# Altium schematic symbol library HW_ADHERENT_NFC_R1_L3.SchLib: 1628 symbols (part 12 of 31)
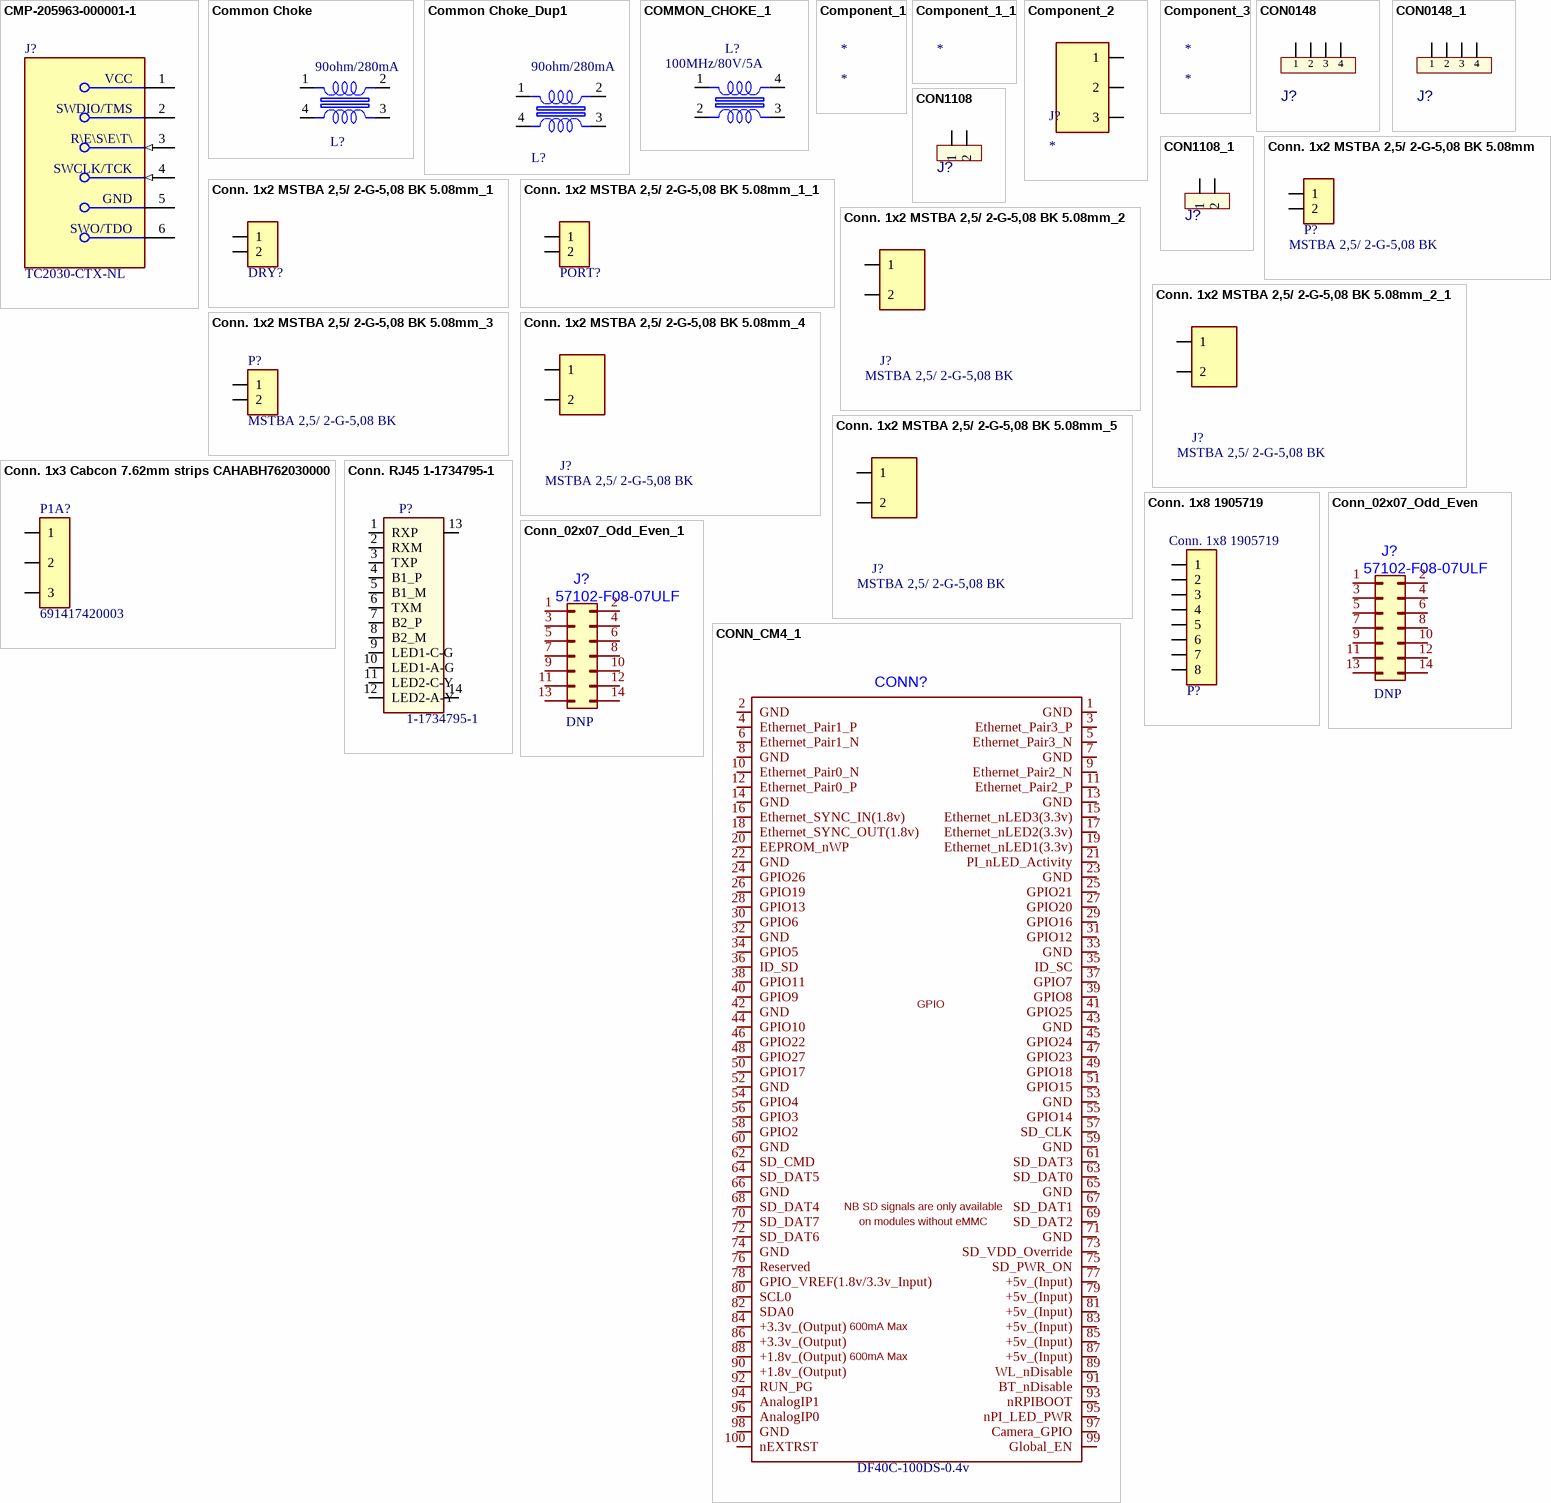
[diagram p61: symbols CMP-205963-000001-1 to CONN_CM4_1]

## Conn_02x07_Odd_Even_1
designator J?, comment 57102-F08-07ULF
CONN HEADER VERT 14POS 2MM; Manufacturer: Amphenol ICC (FCI); Value: 57102-F08-07ULF; Manufacturer Part Number: 57102-F08-07ULF; DNP: DNP; Supplier Part Number: 609-5091-ND
footprint CONN_2MM_57102-F08-07ULF (Footprint not found)
pins: 1 Pin_1, 2 Pin_2, 3 Pin_3, 4 Pin_4, 5 Pin_5, 6 Pin_6, 7 Pin_7, 8 Pin_8, 9 Pin_9, 10 Pin_10, 11 Pin_11, 12 Pin_12, 13 Pin_13, 14 Pin_14

## CONN_CM4_1
designator CONN?, comment DF40C-100DS-0.4v
CONN RCPT 100POS SMD GOLD; Manufacturer: Hirose Electric Co Ltd; Footprint: CM4IO:Raspberry-Pi-4-Compute-Module; Manufacturer Part Number: DF40C-100DS-0.4v; Value: DF40C-100DS-0.4v
footprint CONN_CM4_1 (DF40C-100DS-0.4V(51))
pins: 1 GND, 2 GND, 3 Ethernet_Pair3_P, 4 Ethernet_Pair1_P, 5 Ethernet_Pair3_N, 6 Ethernet_Pair1_N, 7 GND, 8 GND, 9 Ethernet_Pair2_N, 10 Ethernet_Pair0_N, 11 Ethernet_Pair2_P, 12 Ethernet_Pair0_P, 13 GND, 14 GND, 15 Ethernet_nLED3(3.3v), 16 Ethernet_SYNC_IN(1.8v), 17 Ethernet_nLED2(3.3v), 18 Ethernet_SYNC_OUT(1.8v), 19 Ethernet_nLED1(3.3v), 20 EEPROM_nWP, 21 PI_nLED_Activity, 22 GND, 23 GND, 24 GPIO26, 25 GPIO21, 26 GPIO19, 27 GPIO20, 28 GPIO13, 29 GPIO16, 30 GPIO6, 31 GPIO12, 32 GND, 33 GND, 34 GPIO5, 35 ID_SC, 36 ID_SD, 37 GPIO7, 38 GPIO11, 39 GPIO8, 40 GPIO9, 41 GPIO25, 42 GND, 43 GND, 44 GPIO10, 45 GPIO24, 46 GPIO22, 47 GPIO23, 48 GPIO27, 49 GPIO18, 50 GPIO17, 51 GPIO15, 52 GND, 53 GND, 54 GPIO4, 55 GPIO14, 56 GPIO3, 57 SD_CLK, 58 GPIO2, 59 GND, 60 GND, 61 SD_DAT3, 62 SD_CMD, 63 SD_DAT0, 64 SD_DAT5, 65 GND, 66 GND, 67 SD_DAT1, 68 SD_DAT4, 69 SD_DAT2, 70 SD_DAT7, 71 GND, 72 SD_DAT6, 73 SD_VDD_Override, 74 GND, 75 SD_PWR_ON, 76 Reserved, 77 +5v_(Input), 78 GPIO_VREF(1.8v/3.3v_Input), 79 +5v_(Input), 80 SCL0, 81 +5v_(Input), 82 SDA0, 83 +5v_(Input), 84 +3.3v_(Output), 85 +5v_(Input), 86 +3.3v_(Output), 87 +5v_(Input), 88 +1.8v_(Output), 89 WL_nDisable, 90 +1.8v_(Output), 91 BT_nDisable, 92 RUN_PG, 93 nRPIBOOT, 94 AnalogIP1, 95 nPI_LED_PWR, 96 AnalogIP0, 97 Camera_GPIO, 98 GND, 99 Global_EN, 100 nEXTRST
text: GPIO; NB SD signals are only available; on modules without eMMC; 600mA Max

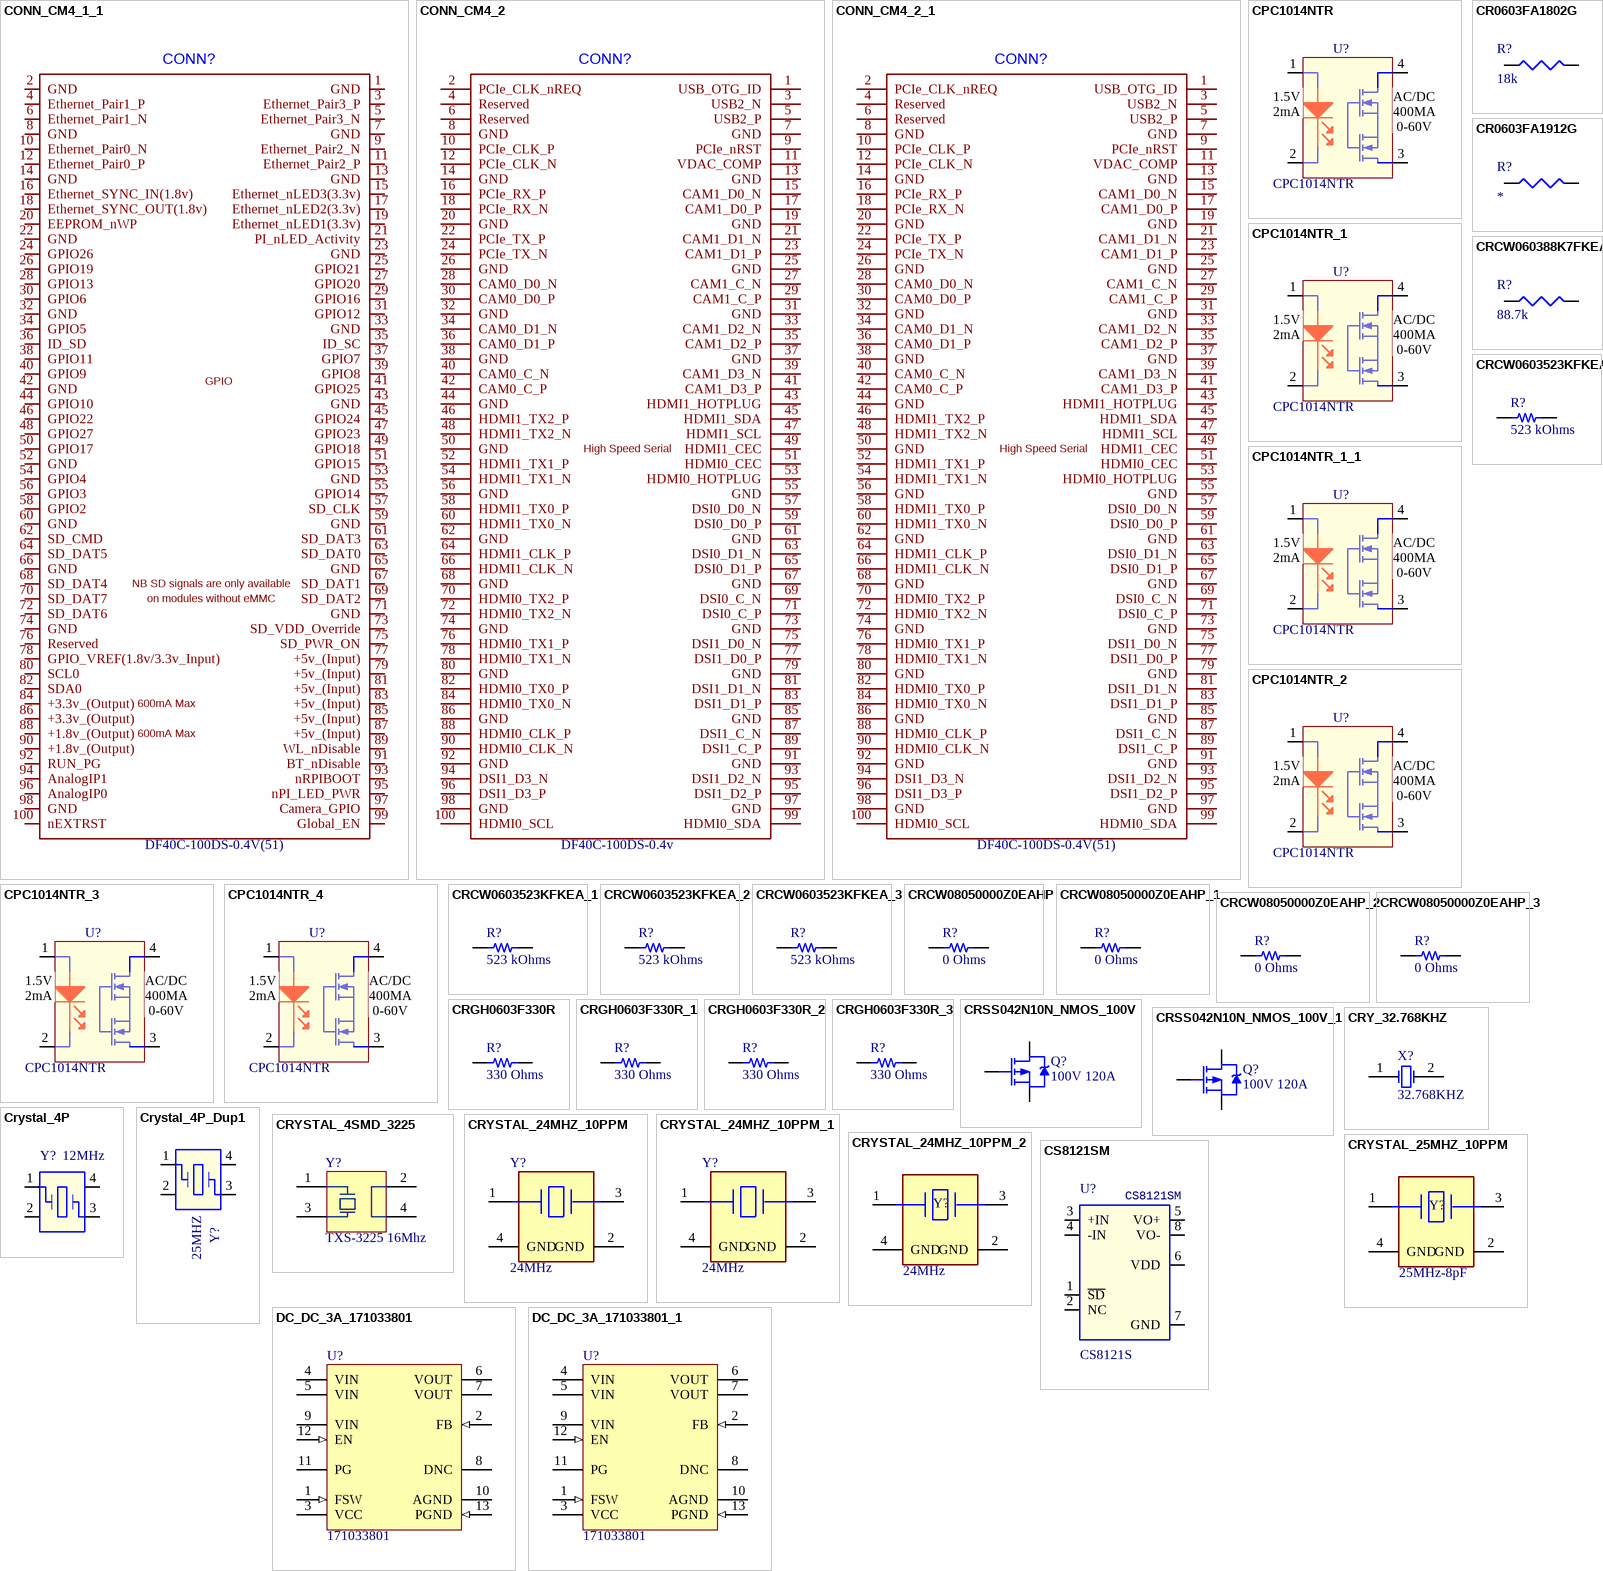
[diagram p18: symbols CONN_CM4_1_1 to DC_DC_3A_171033801_1]

## CONN_CM4_1_1
designator CONN?, comment DF40C-100DS-0.4V(51)
CONN RCPT 100POS SMD GOLD; Manufacturer: Hirose Electric Co Ltd; Footprint: CM4IO:Raspberry-Pi-4-Compute-Module; Manufacturer Part Number: DF40C-100DS-0.4V(51); Value: DF40C-100DS-0.4V(51)
footprint CONN_CM4_1 (DF40C-100DS-0.4V(51))
pins: 1 GND, 2 GND, 3 Ethernet_Pair3_P, 4 Ethernet_Pair1_P, 5 Ethernet_Pair3_N, 6 Ethernet_Pair1_N, 7 GND, 8 GND, 9 Ethernet_Pair2_N, 10 Ethernet_Pair0_N, 11 Ethernet_Pair2_P, 12 Ethernet_Pair0_P, 13 GND, 14 GND, 15 Ethernet_nLED3(3.3v), 16 Ethernet_SYNC_IN(1.8v), 17 Ethernet_nLED2(3.3v), 18 Ethernet_SYNC_OUT(1.8v), 19 Ethernet_nLED1(3.3v), 20 EEPROM_nWP, 21 PI_nLED_Activity, 22 GND, 23 GND, 24 GPIO26, 25 GPIO21, 26 GPIO19, 27 GPIO20, 28 GPIO13, 29 GPIO16, 30 GPIO6, 31 GPIO12, 32 GND, 33 GND, 34 GPIO5, 35 ID_SC, 36 ID_SD, 37 GPIO7, 38 GPIO11, 39 GPIO8, 40 GPIO9, 41 GPIO25, 42 GND, 43 GND, 44 GPIO10, 45 GPIO24, 46 GPIO22, 47 GPIO23, 48 GPIO27, 49 GPIO18, 50 GPIO17, 51 GPIO15, 52 GND, 53 GND, 54 GPIO4, 55 GPIO14, 56 GPIO3, 57 SD_CLK, 58 GPIO2, 59 GND, 60 GND, 61 SD_DAT3, 62 SD_CMD, 63 SD_DAT0, 64 SD_DAT5, 65 GND, 66 GND, 67 SD_DAT1, 68 SD_DAT4, 69 SD_DAT2, 70 SD_DAT7, 71 GND, 72 SD_DAT6, 73 SD_VDD_Override, 74 GND, 75 SD_PWR_ON, 76 Reserved, 77 +5v_(Input), 78 GPIO_VREF(1.8v/3.3v_Input), 79 +5v_(Input), 80 SCL0, 81 +5v_(Input), 82 SDA0, 83 +5v_(Input), 84 +3.3v_(Output), 85 +5v_(Input), 86 +3.3v_(Output), 87 +5v_(Input), 88 +1.8v_(Output), 89 WL_nDisable, 90 +1.8v_(Output), 91 BT_nDisable, 92 RUN_PG, 93 nRPIBOOT, 94 AnalogIP1, 95 nPI_LED_PWR, 96 AnalogIP0, 97 Camera_GPIO, 98 GND, 99 Global_EN, 100 nEXTRST
text: GPIO; NB SD signals are only available; on modules without eMMC; 600mA Max

## CONN_CM4_2
designator CONN?, comment DF40C-100DS-0.4v
CONN RCPT 100POS SMD GOLD; Manufacturer: Hirose Electric Co Ltd; Manufacturer Part Number: DF40C-100DS-0.4v; value: DF40C-100DS-0.4v
footprint CONN_CM4_1 (DF40C-100DS-0.4V(51))
pins: 1 USB_OTG_ID, 2 PCIe_CLK_nREQ, 3 USB2_N, 4 Reserved, 5 USB2_P, 6 Reserved, 7 GND, 8 GND, 9 PCIe_nRST, 10 PCIe_CLK_P, 11 VDAC_COMP, 12 PCIe_CLK_N, 13 GND, 14 GND, 15 CAM1_D0_N, 16 PCIe_RX_P, 17 CAM1_D0_P, 18 PCIe_RX_N, 19 GND, 20 GND, 21 CAM1_D1_N, 22 PCIe_TX_P, 23 CAM1_D1_P, 24 PCIe_TX_N, 25 GND, 26 GND, 27 CAM1_C_N, 28 CAM0_D0_N, 29 CAM1_C_P, 30 CAM0_D0_P, 31 GND, 32 GND, 33 CAM1_D2_N, 34 CAM0_D1_N, 35 CAM1_D2_P, 36 CAM0_D1_P, 37 GND, 38 GND, 39 CAM1_D3_N, 40 CAM0_C_N, 41 CAM1_D3_P, 42 CAM0_C_P, 43 HDMI1_HOTPLUG, 44 GND, 45 HDMI1_SDA, 46 HDMI1_TX2_P, 47 HDMI1_SCL, 48 HDMI1_TX2_N, 49 HDMI1_CEC, 50 GND, 51 HDMI0_CEC, 52 HDMI1_TX1_P, 53 HDMI0_HOTPLUG, 54 HDMI1_TX1_N, 55 GND, 56 GND, 57 DSI0_D0_N, 58 HDMI1_TX0_P, 59 DSI0_D0_P, 60 HDMI1_TX0_N, 61 GND, 62 GND, 63 DSI0_D1_N, 64 HDMI1_CLK_P, 65 DSI0_D1_P, 66 HDMI1_CLK_N, 67 GND, 68 GND, 69 DSI0_C_N, 70 HDMI0_TX2_P, 71 DSI0_C_P, 72 HDMI0_TX2_N, 73 GND, 74 GND, 75 DSI1_D0_N, 76 HDMI0_TX1_P, 77 DSI1_D0_P, 78 HDMI0_TX1_N, 79 GND, 80 GND, 81 DSI1_D1_N, 82 HDMI0_TX0_P, 83 DSI1_D1_P, 84 HDMI0_TX0_N, 85 GND, 86 GND, 87 DSI1_C_N, 88 HDMI0_CLK_P, 89 DSI1_C_P, 90 HDMI0_CLK_N, 91 GND, 92 GND, 93 DSI1_D2_N, 94 DSI1_D3_N, 95 DSI1_D2_P, 96 DSI1_D3_P, 97 GND, 98 GND, 99 HDMI0_SDA, 100 HDMI0_SCL
text: High Speed Serial

## CONN_CM4_2_1
designator CONN?, comment DF40C-100DS-0.4V(51)
CONN RCPT 100POS SMD GOLD; Manufacturer: Hirose Electric Co Ltd; Manufacturer Part Number: DF40C-100DS-0.4V(51); value: DF40C-100DS-0.4V(51)
footprint CONN_CM4_1 (DF40C-100DS-0.4V(51))
pins: 1 USB_OTG_ID, 2 PCIe_CLK_nREQ, 3 USB2_N, 4 Reserved, 5 USB2_P, 6 Reserved, 7 GND, 8 GND, 9 PCIe_nRST, 10 PCIe_CLK_P, 11 VDAC_COMP, 12 PCIe_CLK_N, 13 GND, 14 GND, 15 CAM1_D0_N, 16 PCIe_RX_P, 17 CAM1_D0_P, 18 PCIe_RX_N, 19 GND, 20 GND, 21 CAM1_D1_N, 22 PCIe_TX_P, 23 CAM1_D1_P, 24 PCIe_TX_N, 25 GND, 26 GND, 27 CAM1_C_N, 28 CAM0_D0_N, 29 CAM1_C_P, 30 CAM0_D0_P, 31 GND, 32 GND, 33 CAM1_D2_N, 34 CAM0_D1_N, 35 CAM1_D2_P, 36 CAM0_D1_P, 37 GND, 38 GND, 39 CAM1_D3_N, 40 CAM0_C_N, 41 CAM1_D3_P, 42 CAM0_C_P, 43 HDMI1_HOTPLUG, 44 GND, 45 HDMI1_SDA, 46 HDMI1_TX2_P, 47 HDMI1_SCL, 48 HDMI1_TX2_N, 49 HDMI1_CEC, 50 GND, 51 HDMI0_CEC, 52 HDMI1_TX1_P, 53 HDMI0_HOTPLUG, 54 HDMI1_TX1_N, 55 GND, 56 GND, 57 DSI0_D0_N, 58 HDMI1_TX0_P, 59 DSI0_D0_P, 60 HDMI1_TX0_N, 61 GND, 62 GND, 63 DSI0_D1_N, 64 HDMI1_CLK_P, 65 DSI0_D1_P, 66 HDMI1_CLK_N, 67 GND, 68 GND, 69 DSI0_C_N, 70 HDMI0_TX2_P, 71 DSI0_C_P, 72 HDMI0_TX2_N, 73 GND, 74 GND, 75 DSI1_D0_N, 76 HDMI0_TX1_P, 77 DSI1_D0_P, 78 HDMI0_TX1_N, 79 GND, 80 GND, 81 DSI1_D1_N, 82 HDMI0_TX0_P, 83 DSI1_D1_P, 84 HDMI0_TX0_N, 85 GND, 86 GND, 87 DSI1_C_N, 88 HDMI0_CLK_P, 89 DSI1_C_P, 90 HDMI0_CLK_N, 91 GND, 92 GND, 93 DSI1_D2_N, 94 DSI1_D3_N, 95 DSI1_D2_P, 96 DSI1_D3_P, 97 GND, 98 GND, 99 HDMI0_SDA, 100 HDMI0_SCL
text: High Speed Serial

## CPC1014NTR
designator U?
SSR RELAY SPST-NO 400MA 0-60V; Manufacturer: IXYS Integrated Circuits Division; Manufacturer Part Number: CPC1014NTR; Supplier Part Number: CLA314CT-ND
footprint 4-SOP (Footprint not found)
pins: 1 ANODE, 2 CATHODE1, 3, 4
text: 1.5V / 2mA /; AC/DC / 400MA / 0-60V

## CPC1014NTR_1
designator U?, comment CPC1014NTR
SSR RELAY SPST-NO 400MA 0-60V; Manufacturer: IXYS Integrated Circuits Division; Manufacturer Part Number: CPC1014NTR; Supplier Part Number: CLA314CT-ND
footprint 4-SOP (Footprint not found)
pins: 1 ANODE, 2 CATHODE1, 3, 4
text: 1.5V / 2mA /; AC/DC / 400MA / 0-60V

## CPC1014NTR_1_1
designator U?, comment CPC1014NTR
SSR RELAY SPST-NO 400MA 0-60V; Manufacturer: IXYS Integrated Circuits Division; Manufacturer Part Number: CPC1014NTR; Supplier Part Number: CLA314CT-ND
footprint 4-SOP (Footprint not found)
pins: 1 ANODE, 2 CATHODE1, 3, 4
text: 1.5V / 2mA /; AC/DC / 400MA / 0-60V

## CPC1014NTR_2
designator U?, comment CPC1014NTR
SSR RELAY SPST-NO 400MA 0-60V; Manufacturer: IXYS Integrated Circuits Division; Manufacturer Part Number: CPC1014NTR; Supplier Part Number: CLA314CT-ND
footprint 4-SOP (Footprint not found)
pins: 1 ANODE, 2 CATHODE1, 3, 4
text: 1.5V / 2mA /; AC/DC / 400MA / 0-60V

## CPC1014NTR_3
designator U?, comment CPC1014NTR
SSR RELAY SPST-NO 400MA 0-60V; Manufacturer: IXYS Integrated Circuits Division; Manufacturer Part Number: CPC1014NTR; Supplier Part Number: CLA314CT-ND
footprint 4-SOP (Footprint not found)
pins: 1 ANODE, 2 CATHODE1, 3, 4
text: 1.5V / 2mA /; AC/DC / 400MA / 0-60V

## CPC1014NTR_4
designator U?, comment CPC1014NTR
SSR RELAY SPST-NO 400MA 0-60V; Manufacturer: IXYS Integrated Circuits Division; Manufacturer Part Number: CPC1014NTR; Supplier Part Number: CLA314CT-ND
footprint 4-SOP (Footprint not found)
pins: 1 ANODE, 2 CATHODE1, 3, 4
text: 1.5V / 2mA /; AC/DC / 400MA / 0-60V

## CR0603FA1802G
designator R?, comment 18k
-55℃~+125℃ 100mW 18kΩ 50V Thick Film Resistor ±1% ±100ppm/℃ 0603 Chip Resistor - Surface Mount ROHS; Supplier: C100821
footprint RES0603
pins: 1, 2

## CR0603FA1912G
designator R?
-55℃~+125℃ 100mW 19.1kΩ 50V Thick Film Resistor ±1% ±100ppm/℃ 0603 Chip Resistor - Surface Mount ROHS; Supplier: C100835
footprint RES0603
pins: 1, 2

## CRCW060388K7FKEA
designator R?, comment 88.7k
88.7 kOhms ±1% 0.125W, 1/8W Chip Resistor 0603 (1608 Metric) Automotive AEC-Q200 Thick Film
footprint RES0603
pins: 1, 2

## CRCW0603523KFKEA
designator R?, comment 523 kOhms
RES SMD 523K OHM 1% 1/10W 0603; Part Number: CRCW0603523KFKEA; Manufacturer: Vishay Dale; Power (Watts): 0.1W, 1/10W; Temperature Coefficient: ±100ppm/°C; Value: 523 kOhms; ComponentLink1Description: Datasheet; ComponentLink1URL: http://www.vishay.com/docs/20035/dcrcwe3.pdf; ComponentLink2Description: DigiKey Link; ComponentLink2URL: https://www.digikey.com/en/products/detail/vishay-dale/CRCW0603523KFKEA/1174978; Composition: Thick Film; Device Package: 0603 (1608 Metric); Features: Automotive AEC-Q200; Height - Seated (Max): 0.020" (0.50mm); LastUpdated: 2/9/2024 8:43:30 PM; Lifecycle Status: Active; Minimum Order: 1; Number of Terminations: 2; Operating Temperature: -55°C ~ 155°C; Package / Case: 0603 (1608 Metric); Packaging: TapeAndReel; PartId: 6595; Part Status: Active; Price: 0.01; Ratings: AEC-Q200; Resistance: 523 kOhms; Series: CRCW; Size / Dimension: 0.061" L x 0.033" W (1.55mm x 0.85mm); Supplier 1: DigiKey; Supplier Part Number 1: 541-523KHCT-ND; Supplier Device Package: 0603; Tolerance: ±1%
footprint RES 0603_1608
pins: 1, 2

## CRCW0603523KFKEA_1
designator R?, comment 523 kOhms
RES SMD 523K OHM 1% 1/10W 0603; Part Number: CRCW0603523KFKEA; Manufacturer: Vishay Dale; Power (Watts): 0.1W, 1/10W; Temperature Coefficient: ±100ppm/°C; Value: 523 kOhms; ComponentLink1Description: Datasheet; ComponentLink1URL: http://www.vishay.com/docs/20035/dcrcwe3.pdf; ComponentLink2Description: DigiKey Link; ComponentLink2URL: https://www.digikey.com/en/products/detail/vishay-dale/CRCW0603523KFKEA/1174978; Composition: Thick Film; Device Package: 0603 (1608 Metric); Features: Automotive AEC-Q200; Height - Seated (Max): 0.020" (0.50mm); LastUpdated: 2/9/2024 8:43:30 PM; Lifecycle Status: Active; Minimum Order: 1; Number of Terminations: 2; Operating Temperature: -55°C ~ 155°C; Package / Case: 0603 (1608 Metric); Packaging: TapeAndReel; PartId: 6595; Part Status: Active; Price: 0.01; Ratings: AEC-Q200; Resistance: 523 kOhms; Series: CRCW; Size / Dimension: 0.061" L x 0.033" W (1.55mm x 0.85mm); Supplier 1: DigiKey; Supplier Part Number 1: 541-523KHCT-ND; Supplier Device Package: 0603; Tolerance: ±1%
footprint RES 0603_1608
pins: 1, 2

## CRCW0603523KFKEA_2
designator R?, comment 523 kOhms
RES SMD 523K OHM 1% 1/10W 0603; Part Number: CRCW0603523KFKEA; Manufacturer: Vishay Dale; Power (Watts): 0.1W, 1/10W; Temperature Coefficient: ±100ppm/°C; Value: 523 kOhms; ComponentLink1Description: Datasheet; ComponentLink1URL: http://www.vishay.com/docs/20035/dcrcwe3.pdf; ComponentLink2Description: DigiKey Link; ComponentLink2URL: https://www.digikey.com/en/products/detail/vishay-dale/CRCW0603523KFKEA/1174978; Composition: Thick Film; Device Package: 0603 (1608 Metric); Features: Automotive AEC-Q200; Height - Seated (Max): 0.020" (0.50mm); LastUpdated: 2/9/2024 8:43:30 PM; Lifecycle Status: Active; Minimum Order: 1; Number of Terminations: 2; Operating Temperature: -55°C ~ 155°C; Package / Case: 0603 (1608 Metric); Packaging: TapeAndReel; PartId: 6595; Part Status: Active; Price: 0.01; Ratings: AEC-Q200; Resistance: 523 kOhms; Series: CRCW; Size / Dimension: 0.061" L x 0.033" W (1.55mm x 0.85mm); Supplier 1: DigiKey; Supplier Part Number 1: 541-523KHCT-ND; Supplier Device Package: 0603; Tolerance: ±1%
footprint RES 0603_1608
pins: 1, 2

## CRCW0603523KFKEA_3
designator R?, comment 523 kOhms
RES SMD 523K OHM 1% 1/10W 0603; Part Number: CRCW0603523KFKEA; Manufacturer: Vishay Dale; Power (Watts): 0.1W, 1/10W; Temperature Coefficient: ±100ppm/°C; Value: 523 kOhms; ComponentLink1Description: Datasheet; ComponentLink1URL: http://www.vishay.com/docs/20035/dcrcwe3.pdf; ComponentLink2Description: DigiKey Link; ComponentLink2URL: https://www.digikey.com/en/products/detail/vishay-dale/CRCW0603523KFKEA/1174978; Composition: Thick Film; Device Package: 0603 (1608 Metric); Features: Automotive AEC-Q200; Height - Seated (Max): 0.020" (0.50mm); LastUpdated: 2/9/2024 8:43:30 PM; Lifecycle Status: Active; Minimum Order: 1; Number of Terminations: 2; Operating Temperature: -55°C ~ 155°C; Package / Case: 0603 (1608 Metric); Packaging: TapeAndReel; PartId: 6595; Part Status: Active; Price: 0.01; Ratings: AEC-Q200; Resistance: 523 kOhms; Series: CRCW; Size / Dimension: 0.061" L x 0.033" W (1.55mm x 0.85mm); Supplier 1: DigiKey; Supplier Part Number 1: 541-523KHCT-ND; Supplier Device Package: 0603; Tolerance: ±1%
footprint RES 0603_1608
pins: 1, 2

## CRCW08050000Z0EAHP
designator R?, comment 0 Ohms
RES SMD 0 OHM JUMPER 1/2W 0805; Part Number: CRCW08050000Z0EAHP; Manufacturer: Vishay Dale; Power (Watts): 0.5W, 1/2W; ComponentLink1Description: Datasheet; ComponentLink1URL: http://www.vishay.com/docs/20043/crcwhpe3.pdf; ComponentLink2Description: DigiKey Link; ComponentLink2URL: https://www.digikey.com/en/products/detail/vishay-dale/CRCW08050000Z0EAHP/2222316; Composition: Thick Film; Device Package: 0805 (2012 Metric); Features: Automotive AEC-Q200, Pulse Withstanding; Height - Seated (Max): 0.020" (0.50mm); LastUpdated: 2/8/2024 9:02:37 PM; Lifecycle Status: Active; Minimum Order: 1; Number of Terminations: 2; Operating Temperature: -55°C ~ 155°C; Package / Case: 0805 (2012 Metric); Packaging: TapeAndReel; PartId: 28039; Part Status: Active; Price: 0.02; Ratings: AEC-Q200; Resistance: 0 Ohms; Series: CRCW-HP; Size / Dimension: 0.079" L x 0.049" W (2.00mm x 1.25mm); Supplier 1: DigiKey; Supplier Part Number 1: 541-0.0TBCT-ND; Supplier Device Package: 0805; Tolerance: Jumper; Value: 0 Ohms
footprint RES 0805_2012
pins: 1, 2

## CRCW08050000Z0EAHP_1
designator R?, comment 0 Ohms
RES SMD 0 OHM JUMPER 1/2W 0805; Part Number: CRCW08050000Z0EAHP; Manufacturer: Vishay Dale; Power (Watts): 0.5W, 1/2W; Value: 0 Ohms; ComponentLink1Description: Datasheet; ComponentLink1URL: http://www.vishay.com/docs/20043/crcwhpe3.pdf; ComponentLink2Description: DigiKey Link; ComponentLink2URL: https://www.digikey.com/en/products/detail/vishay-dale/CRCW08050000Z0EAHP/2222316; Composition: Thick Film; Device Package: 0805 (2012 Metric); Features: Automotive AEC-Q200, Pulse Withstanding; Height - Seated (Max): 0.020" (0.50mm); LastUpdated: 2/8/2024 9:02:37 PM; Lifecycle Status: Active; Minimum Order: 1; Number of Terminations: 2; Operating Temperature: -55°C ~ 155°C; Package / Case: 0805 (2012 Metric); Packaging: TapeAndReel; PartId: 28039; Part Status: Active; Price: 0.02; Ratings: AEC-Q200; Resistance: 0 Ohms; Series: CRCW-HP; Size / Dimension: 0.079" L x 0.049" W (2.00mm x 1.25mm); Supplier 1: DigiKey; Supplier Part Number 1: 541-0.0TBCT-ND; Supplier Device Package: 0805; Tolerance: Jumper
footprint RES 0805_2012
pins: 1, 2

## CRCW08050000Z0EAHP_2
designator R?, comment 0 Ohms
RES SMD 0 OHM JUMPER 1/2W 0805; Part Number: CRCW08050000Z0EAHP; Manufacturer: Vishay Dale; Power (Watts): 0.5W, 1/2W; ComponentLink1Description: Datasheet; ComponentLink1URL: http://www.vishay.com/docs/20043/crcwhpe3.pdf; ComponentLink2Description: DigiKey Link; ComponentLink2URL: https://www.digikey.com/en/products/detail/vishay-dale/CRCW08050000Z0EAHP/2222316; Composition: Thick Film; Device Package: 0805 (2012 Metric); Features: Automotive AEC-Q200, Pulse Withstanding; Height - Seated (Max): 0.020" (0.50mm); LastUpdated: 2/8/2024 9:02:37 PM; Lifecycle Status: Active; Minimum Order: 1; Number of Terminations: 2; Operating Temperature: -55°C ~ 155°C; Package / Case: 0805 (2012 Metric); Packaging: TapeAndReel; PartId: 28039; Part Status: Active; Price: 0.02; Ratings: AEC-Q200; Resistance: 0 Ohms; Series: CRCW-HP; Size / Dimension: 0.079" L x 0.049" W (2.00mm x 1.25mm); Supplier 1: DigiKey; Supplier Part Number 1: 541-0.0TBCT-ND; Supplier Device Package: 0805; Tolerance: Jumper; Value: 0 Ohms
footprint RES 0805_2012
pins: 1, 2

## CRCW08050000Z0EAHP_3
designator R?, comment 0 Ohms
RES SMD 0 OHM JUMPER 1/2W 0805; Part Number: CRCW08050000Z0EAHP; Manufacturer: Vishay Dale; Power (Watts): 0.5W, 1/2W; ComponentLink1Description: Datasheet; ComponentLink1URL: http://www.vishay.com/docs/20043/crcwhpe3.pdf; ComponentLink2Description: DigiKey Link; ComponentLink2URL: https://www.digikey.com/en/products/detail/vishay-dale/CRCW08050000Z0EAHP/2222316; Composition: Thick Film; Device Package: 0805 (2012 Metric); Features: Automotive AEC-Q200, Pulse Withstanding; Height - Seated (Max): 0.020" (0.50mm); LastUpdated: 2/8/2024 9:02:37 PM; Lifecycle Status: Active; Minimum Order: 1; Number of Terminations: 2; Operating Temperature: -55°C ~ 155°C; Package / Case: 0805 (2012 Metric); Packaging: TapeAndReel; PartId: 28039; Part Status: Active; Price: 0.02; Ratings: AEC-Q200; Resistance: 0 Ohms; Series: CRCW-HP; Size / Dimension: 0.079" L x 0.049" W (2.00mm x 1.25mm); Supplier 1: DigiKey; Supplier Part Number 1: 541-0.0TBCT-ND; Supplier Device Package: 0805; Tolerance: Jumper; Value: 0 Ohms
footprint RES 0805_2012
pins: 1, 2

## CRGH0603F330R
designator R?, comment 330 Ohms
RES SMD 330 OHM 1% 1/5W 0603; Part Number: CRGH0603F330R; Manufacturer: TE Connectivity Passive Product; Power (Watts): 0.2W, 1/5W; Temperature Coefficient: ±100ppm/°C; Value: 330 Ohms; ComponentLink1Description: Datasheet; ComponentLink1URL: https://www.te.com/commerce/DocumentDelivery/DDEController?Action=srchrtrv&DocNm=1773204-1&DocType=DS&DocLang=English; ComponentLink2Description: DigiKey Link; ComponentLink2URL: https://www.digikey.com/en/products/detail/te-connectivity-passive-product/CRGH0603F330R/5586961; Composition: Thick Film; Device Package: 0603 (1608 Metric); Height - Seated (Max): 0.022" (0.55mm); LastUpdated: 2/9/2024 8:43:33 PM; Lifecycle Status: Active; Minimum Order: 1; Number of Terminations: 2; Operating Temperature: -55°C ~ 155°C; Package / Case: 0603 (1608 Metric); Packaging: TapeAndReel; PartId: 5733; Part Status: Active; Price: 0.01; Resistance: 330 Ohms; Series: CRGH, Neohm; Size / Dimension: 0.063" L x 0.031" W (1.60mm x 0.80mm); Supplier 1: DigiKey; Supplier Part Number 1: A129541CT-ND; Supplier Device Package: 0603; Tolerance: ±1%
footprint RES 0603_1608
pins: 1, 2

## CRGH0603F330R_1
designator R?, comment 330 Ohms
RES SMD 330 OHM 1% 1/5W 0603; Part Number: CRGH0603F330R; Manufacturer: TE Connectivity Passive Product; Power (Watts): 0.2W, 1/5W; Temperature Coefficient: ±100ppm/°C; Value: 330 Ohms; ComponentLink1Description: Datasheet; ComponentLink1URL: https://www.te.com/commerce/DocumentDelivery/DDEController?Action=srchrtrv&DocNm=1773204-1&DocType=DS&DocLang=English; ComponentLink2Description: DigiKey Link; ComponentLink2URL: https://www.digikey.com/en/products/detail/te-connectivity-passive-product/CRGH0603F330R/5586961; Composition: Thick Film; Device Package: 0603 (1608 Metric); Height - Seated (Max): 0.022" (0.55mm); LastUpdated: 2/9/2024 8:43:33 PM; Lifecycle Status: Active; Minimum Order: 1; Number of Terminations: 2; Operating Temperature: -55°C ~ 155°C; Package / Case: 0603 (1608 Metric); Packaging: TapeAndReel; PartId: 5733; Part Status: Active; Price: 0.01; Resistance: 330 Ohms; Series: CRGH, Neohm; Size / Dimension: 0.063" L x 0.031" W (1.60mm x 0.80mm); Supplier 1: DigiKey; Supplier Part Number 1: A129541CT-ND; Supplier Device Package: 0603; Tolerance: ±1%
footprint RES 0603_1608
pins: 1, 2

## CRGH0603F330R_2
designator R?, comment 330 Ohms
RES SMD 330 OHM 1% 1/5W 0603; Part Number: CRGH0603F330R; Manufacturer: TE Connectivity Passive Product; Power (Watts): 0.2W, 1/5W; Temperature Coefficient: ±100ppm/°C; Value: 330 Ohms; ComponentLink1Description: Datasheet; ComponentLink1URL: https://www.te.com/commerce/DocumentDelivery/DDEController?Action=srchrtrv&DocNm=1773204-1&DocType=DS&DocLang=English; ComponentLink2Description: DigiKey Link; ComponentLink2URL: https://www.digikey.com/en/products/detail/te-connectivity-passive-product/CRGH0603F330R/5586961; Composition: Thick Film; Device Package: 0603 (1608 Metric); Height - Seated (Max): 0.022" (0.55mm); LastUpdated: 2/9/2024 8:43:33 PM; Lifecycle Status: Active; Minimum Order: 1; Number of Terminations: 2; Operating Temperature: -55°C ~ 155°C; Package / Case: 0603 (1608 Metric); Packaging: TapeAndReel; PartId: 5733; Part Status: Active; Price: 0.01; Resistance: 330 Ohms; Series: CRGH, Neohm; Size / Dimension: 0.063" L x 0.031" W (1.60mm x 0.80mm); Supplier 1: DigiKey; Supplier Part Number 1: A129541CT-ND; Supplier Device Package: 0603; Tolerance: ±1%
footprint RES 0603_1608
pins: 1, 2

## CRGH0603F330R_3
designator R?, comment 330 Ohms
RES SMD 330 OHM 1% 1/5W 0603; Part Number: CRGH0603F330R; Manufacturer: TE Connectivity Passive Product; Power (Watts): 0.2W, 1/5W; Temperature Coefficient: ±100ppm/°C; Value: 330 Ohms; ComponentLink1Description: Datasheet; ComponentLink1URL: https://www.te.com/commerce/DocumentDelivery/DDEController?Action=srchrtrv&DocNm=1773204-1&DocType=DS&DocLang=English; ComponentLink2Description: DigiKey Link; ComponentLink2URL: https://www.digikey.com/en/products/detail/te-connectivity-passive-product/CRGH0603F330R/5586961; Composition: Thick Film; Device Package: 0603 (1608 Metric); Height - Seated (Max): 0.022" (0.55mm); LastUpdated: 2/9/2024 8:43:33 PM; Lifecycle Status: Active; Minimum Order: 1; Number of Terminations: 2; Operating Temperature: -55°C ~ 155°C; Package / Case: 0603 (1608 Metric); Packaging: TapeAndReel; PartId: 5733; Part Status: Active; Price: 0.01; Resistance: 330 Ohms; Series: CRGH, Neohm; Size / Dimension: 0.063" L x 0.031" W (1.60mm x 0.80mm); Supplier 1: DigiKey; Supplier Part Number 1: A129541CT-ND; Supplier Device Package: 0603; Tolerance: ±1%
footprint RES 0603_1608
pins: 1, 2

## CRSS042N10N_NMOS_100V
designator Q?, comment 100V 120A
100V 120A 227W 4.2mΩ@10V,50A N Channel TO-263-3 MOSFETs ROHS; LCSC Manufacturer Part Number: CRSS042N10N; Value: 100V 120A; LCSC Part Number: C410926
footprint TO263-2
pins: 1 G, 2 D, 3 S

## CRSS042N10N_NMOS_100V_1
designator Q?, comment 100V 120A
100V 120A 227W 4.2mΩ@10V,50A N Channel TO-263-3 MOSFETs ROHS; LCSC Manufacturer Part Number: CRSS042N10N; LCSC Part Number: C410926; Value: 100V 120A
footprint TO263-2
pins: 1 G, 2 D, 3 S

## CRY_32.768KHZ
designator X?, comment 32.768KHZ
CRYSTAL 32.768KHZ 12.5PF SMD; Order Code: DIGI : 2195-CM7V-T1A-32.768KHZ-12.5PF-20PPM-TB-QACT-ND; Value: 32.768KHZ
footprint CRY_ABS07 (0.126" L x 0.059" W (3.20mm x 1.50mm))
pins: 1 OSC1, 2 OSC2

## Crystal_4P
designator Y?, comment 12MHz
Crystal,12MHz,+/-20ppm,18pF,-40~85¡ãC,4Pin,3225,SMD,SJK; Manufacturer P/N: SJK-7U12000MAH2420B8; RP1 Manufacturer P/N: 7M12000031; CLASS: IC; Myir P/N: 20901.00031; PCB Footprint: 3225; RP1 Myir P/N: 20901.00003; Datasheet: 7U12000MAH2420B8.pdf; Reserve Value: 12MHz; Manufacturer: SJK; Part Type: Crystal
footprint 3225
pins: 1, 2, 3, 4

## Crystal_4P_Dup1
designator Y?, comment 25MHZ
Crystal,25MHz,+/-10ppm,18pF,4Pin,3225,-40¡æto+85¡æ,SMD,SJK; RP2 Manufacturer P/N: E3FB25E000012E; RP1 Manufacturer P/N: 7V25000025; Manufacturer P/N: SJK-7U25000MAH1430B8; RP2 Myir P/N: 20901.00020; RP1 Myir P/N: 20901.00005; Myir P/N: 20901.00029; PCB Footprint: 3225; Reserve Value: 25MHz; Manufacturer: SJK; Part Type: Crystal; Datasheet: 7U25000MAH1430B8.pdf
footprint 3225
pins: 1, 2 GND/NC (power), 3, 4 GND/NC (power)

## CRYSTAL_4SMD_3225
designator Y?, comment TXS-3225 16Mhz
TSX-3225 16.0000MF09Z-AC0; Manufacturer: SER4069CT-ND; Manufacturer Part Number: TSX-3225 16.0000MF09Z-AC0
footprint SMD 3.2x2.5x1mm (ABM8G-25.000MHZ-4Y-T3)
pins: 1, 2 (power), 3, 4 (power)

## CRYSTAL_24MHZ_10PPM
designator Y?, comment value 24MHz  (hidden comment: 24MHz 16pF ±10ppm ±30ppm SMD3225-4P Crystals ROHS)
Manufacturer Part Number: 7U24000E16UCG; Order Code: LCSC: C557197; LCSC Manufacturer Part Number: 7U24000E16UCG; LCSC Part Number: C557197
footprint 3225_CRYSTAL
pins: 1, 2 GND (power), 3, 4 GND (power)

## CRYSTAL_24MHZ_10PPM_1
designator Y?, comment value 24MHz  (hidden comment: 24MHz 16pF ±10ppm ±30ppm SMD3225-4P Crystals ROHS)
Manufacturer Part Number: 7U24000E16UCG; Order Code: LCSC: C557197; LCSC Manufacturer Part Number: 7U24000E16UCG; LCSC Part Number: C557197
footprint 3225_CRYSTAL
pins: 1, 2 GND (power), 3, 4 GND (power)

## CRYSTAL_24MHZ_10PPM_2
designator Y?, comment value 24MHz  (hidden comment: 24MHz 16pF ±10ppm ±30ppm SMD3225-4P Crystals ROHS)
Manufacturer Part Number: 7U24000E16UCG; Order Code: LCSC: C557197; LCSC Manufacturer Part Number: 7U24000E16UCG; LCSC Part Number: C557197
footprint 3225_CRYSTAL
pins: 1, 2 GND (power), 3, 4 GND (power)

## CRYSTAL_25MHZ_10PPM
designator Y?, comment value 25MHz-8pF  (hidden comment: CRYSTAL 25.0000MHZ 8PF SMD)
25 MHz Crystal 8pF 4-SMD, No Lead; Manufacturer Part Number: CG06750-25M; Order Code: DIGI: 644-CG06750-25MTR-ND
footprint 3225_CRYSTAL
pins: 1, 2 GND (power), 3, 4 GND (power)

## CS8121SM
designator U?, comment CS8121S
IC,4.0W mono output,super low EMI,class D audio amplify.-40~85¡æ,Power input 2.6~6.5V,SOP8L,ChipStar; Myir P/N: 20115.00012; PCB Footprint: SOIC8; Part Type: Interface; Manufacturer: Chipstar; Manufacturer P/N: CS8121S; Reserve Value: CS8121S; Datasheet: CS8121_ch_v1.0.pdf
footprint soic8
pins: 1 ~{SD}, 2 NC, 3 +IN (hiz), 4 -IN (hiz), 5 VO+ (hiz), 6 VDD (power), 7 GND (power), 8 VO- (hiz)

## DC_DC_3A_171033801
designator U?, comment 171033801
WPME-VDLM VARIABLE STEP DOWN REG; Manufacturer: Würth Elektronik; Manufacturer Part Number: 171033801; Supplier Part Number: 732-171033801CT-ND; Value: 171033801
footprint 12-LGA-10.0X6.0X3.1MM
pins: 1 FSW (in), 2 FB (in), 3 VCC (power), 4 VIN (power), 5 VIN (power), 6 VOUT (power), 7 VOUT (power), 8 DNC, 9 VIN (power), 10 AGND (power), 11 PG (oc), 12 EN (in), 13 PGND (in)

## DC_DC_3A_171033801_1
designator U?, comment 171033801
WPME-VDLM VARIABLE STEP DOWN REG; Manufacturer: Würth Elektronik; Manufacturer Part Number: 171033801; Supplier Part Number: 732-171033801CT-ND; Value: 171033801
footprint 12-LGA-10.0X6.0X3.1MM
pins: 1 FSW (in), 2 FB (in), 3 VCC (power), 4 VIN (power), 5 VIN (power), 6 VOUT (power), 7 VOUT (power), 8 DNC, 9 VIN (power), 10 AGND (power), 11 PG (oc), 12 EN (in), 13 PGND (in)

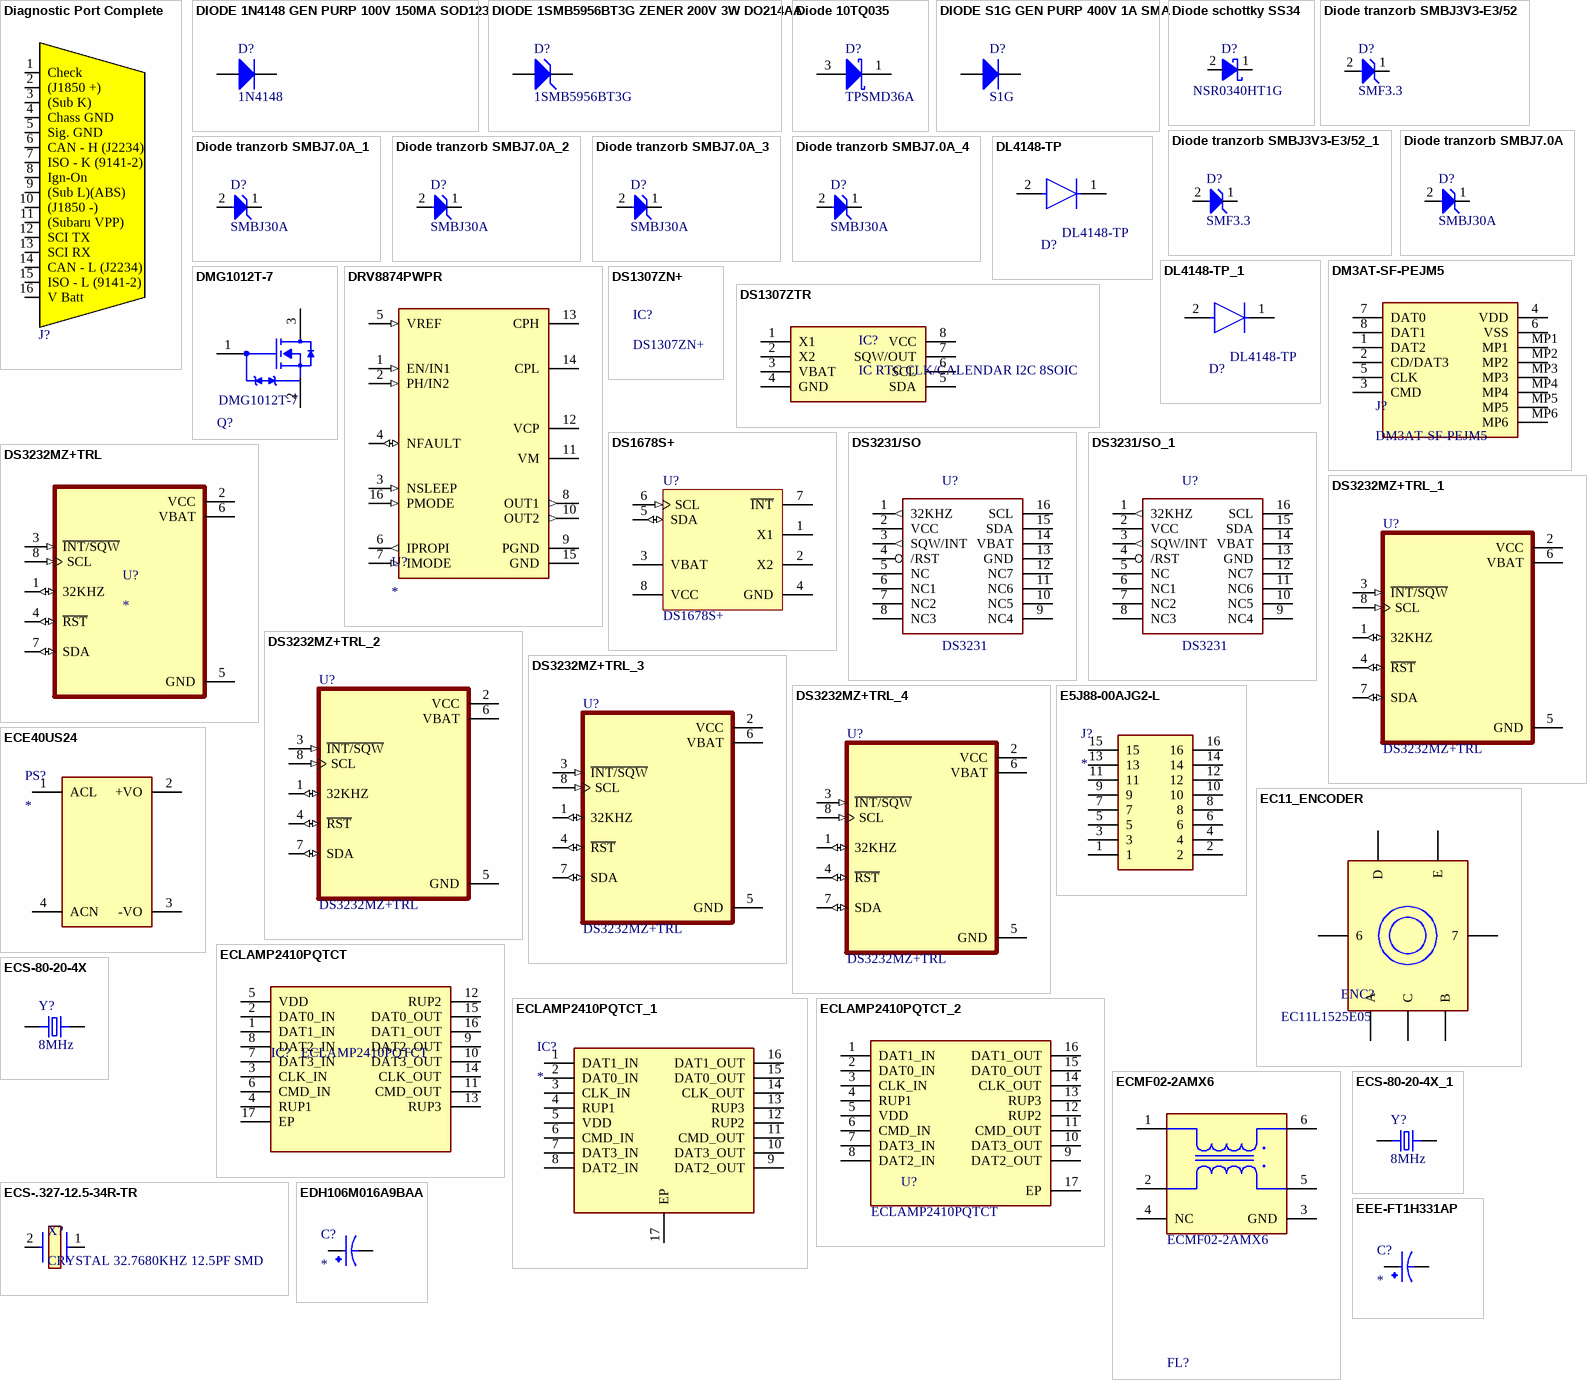
[diagram p19: symbols Diagnostic Port Complete to EEE-FT1H331AP]

## Diagnostic Port Complete
designator J?  (value not drawn)  (no BOM)
Vendor: Nemalyn Segura <nemalyn@autotestaid.com>
footprint OBDII 90 no clip (OBDII 90 degree no clip)
pins: 1 Check, 2 (J1850 +), 3 (Sub K), 4 Chass GND, 5 Sig. GND, 6 CAN - H (J2234), 7 ISO - K (9141-2), 8 Ign-On, 9 (Sub L)(ABS), 10 (J1850 -), 11 (Subaru VPP), 12 SCI TX, 13 SCI RX, 14 CAN - L (J2234), 15 ISO - L (9141-2), 16 V Batt

## DIODE 1N4148 GEN PURP 100V 150MA SOD123
designator D?  value 1N4148  (hidden comment: DIODE 1N4148 GEN PURP 100V 150MA SOD123)
Manufacturer: MICRO COMMERCIAL; Manufacturer Part Name: 1N4148W-TP; Code: 3040007; Family: DIODE; Package Reference: SOD123; Supplier: Digikey; Supplier No: 1N4148WTPMSTR-ND
footprint SOD123 (SOD-123; 2 Leads; Body 2.7 x 1.6 mm, (LxW))
pins: 1 A, 2 K

## DIODE 1SMB5956BT3G ZENER 200V 3W DO214AA
designator D?  value 1SMB5956BT3G  (hidden comment: DIODE 1SMB5956BT3G ZENER 200V 3W DO214AA)
Manufacturer: ON SEMI; Code: 3040095; Family: DIODE; Manufacturer Part Name: 1SMB5956BT3G; Package Reference: DO35; Supplier: Farnell; Supplier No: 2440703
footprint DO214AA
pins: 1 A, 2 K

## Diode 10TQ035
designator D?, comment TPSMD36A
TVS DIODE 36VWM 58.1VC DO214AB; Manufacturer: Littelfuse Inc.; Manufacturer Part Number: TPSMD36A; Value: TPSMD36A; Supplier Part Number: F6573CT-ND
simulation model 10TQ035 (DIODE)
footprint DO-214AB
pins: 1 K, 3 A

## DIODE S1G GEN PURP 400V 1A SMA
designator D?  value S1G  (hidden comment: DIODE S1G GEN PURP 400V 1A SMA)
Manufacturer: FAIRCHILD; Code: 3040002; Family: DIODE; Manufacturer Part Name: S1G; Package Reference: DO214AC; Supplier: Digikey; Supplier No: S1GFSDKR-ND
footprint DO214AC (DO-214-AC/SMA; 2 C-Bend Leads; Body 5.3 x 2.6 mm, inc. leads (LxW))
pins: 1 A, 2 K

## Diode schottky SS34
designator D?, comment NSR0340HT1G
DIODE SCHOTTKY 40V 250MA SOD323; Manufacturer: onsemi; Value: NSR0340HT1G; Manufacturer Part Number: NSR0340HT1G; Supplier Part Number: NSR0340HT1GOSCT-ND
footprint SOD-323 (PN: 1N4148WS[Fairchild]; CHECKED BY DN_QN - 19FEB19)
pins: 1 KATHODE, 2 ANODE

## Diode tranzorb SMBJ3V3-E3/52
designator D?, comment SMF3.3
TVS DIODE 3.3VWM 6.8VC SOD123FL; Manufacturer: Littelfuse Inc.; Position: D?; Manufacturer Part Number: SMF3.3; Supplier Part Number: SMBJ3V3-E3/52GICT-ND; Value: SMF3.3
footprint SOD-123F (SMF3.3)
pins: 1 C1, 2 A

## Diode tranzorb SMBJ3V3-E3/52_1
designator D?, comment SMF3.3
TVS DIODE 3.3VWM 6.8VC SOD123FL; Manufacturer: Littelfuse Inc.; Position: D?; Manufacturer Part Number: SMF3.3; Supplier Part Number: SMBJ3V3-E3/52GICT-ND; Value: SMF3.3
footprint SOD-123F (SMF3.3)
pins: 1 C1, 2 A

## Diode tranzorb SMBJ7.0A
designator D?, comment value SMBJ30A  (hidden comment: SMBJ7.0A)
TVS DIODE 30VWM 48.4VC DO214AA; Manufacturer: Littelfuse Inc.; Manufacturer Part Number: SMBJ30A; Supplier Part Number: SMBJ30ALFCT-ND
footprint SMB (DO-214AA, SMB)
pins: 1 C, 2 A

## Diode tranzorb SMBJ7.0A_1
designator D?, comment value SMBJ30A  (hidden comment: SMBJ7.0A)
TVS DIODE 30VWM 48.4VC DO214AA; Manufacturer: Littelfuse Inc.; Manufacturer Part Number: SMBJ30A; Supplier Part Number: SMBJ30ALFCT-ND
footprint SMB (DO-214AA, SMB)
pins: 1 C, 2 A

## Diode tranzorb SMBJ7.0A_2
designator D?, comment value SMBJ30A  (hidden comment: SMBJ7.0A)
TVS DIODE 30VWM 48.4VC DO214AA; Manufacturer: Littelfuse Inc.; Manufacturer Part Number: SMBJ30A; Supplier Part Number: SMBJ30ALFCT-ND
footprint SMB (DO-214AA, SMB)
pins: 1 C, 2 A

## Diode tranzorb SMBJ7.0A_3
designator D?, comment value SMBJ30A  (hidden comment: SMBJ7.0A)
TVS DIODE 30VWM 48.4VC DO214AA; Manufacturer: Littelfuse Inc.; Manufacturer Part Number: SMBJ30A; Supplier Part Number: SMBJ30ALFCT-ND
footprint SMB (DO-214AA, SMB)
pins: 1 C, 2 A

## Diode tranzorb SMBJ7.0A_4
designator D?, comment value SMBJ30A  (hidden comment: SMBJ7.0A)
TVS DIODE 30VWM 48.4VC DO214AA; Manufacturer: Littelfuse Inc.; Manufacturer Part Number: SMBJ30A; Supplier Part Number: SMBJ30ALFCT-ND
footprint SMB (DO-214AA, SMB)
pins: 1 C, 2 A

## DL4148-TP
designator D?  (value not drawn)
DIODE GEN 75V 150MA MINI MELF; Manufacturer: Micro Commercial; Capacitance: SKIP; Library Path1: parts/Diode_Micro_Commercial_DL4148-TP_eec.SchLib; Value: SKIP; Part Number: DL4148-TP; Datasheet Path: datasheets/Diode_Micro_Commercial_DL4148-TP_eec.pdf; ComponentLink1Description: Upverter; ComponentLink1URL: https://upverter.com/upn/revision/6c2c53871e71e105/; ComponentLink2Description: Datasheet; ComponentLink2URL: http://www.mccsemi.com/up_pdf/DL4148(MiniMelf).pdf; Datasheet Path1: datasheets/Diode_Micro_Commercial_DL4148-TP_eec.pdf; Digikey Description: DIODE GEN 75V 150MA MINI MELF; Digikey Part Number: DL4148-TPMSCT-ND; Inductance: SKIP; Ipc Land Pattern Name: DIOMELF350145; Lead Free: yes; Library Ref1: DL4148-TP; Mouser Part Number: 833-DL4148-TP; Package: MiniMELF; Price: 0.0847543684707; Resistance: SKIP; RoHS: TRUE; Supplier 1: Digi-Key; Supplier 2: Mouser; Supplier Part Number 1: DL4148-TPMSCT-ND; Supplier Part Number 2: 833-DL4148-TP; Temperature: -65℃ to +175℃; Temperature Range High: +175℃; Temperature Range Low: -65℃; Voltage: 75V; helpURL: https://upverter.com/upn/revision/6c2c53871e71e105/
footprint Micro_Commercial_DL4148-TP_0
pins: 1 C, 2 A

## DL4148-TP_1
designator D?, comment DL4148-TP  (value not drawn)
DIODE GEN 75V 150MA MINI MELF; Manufacturer: Micro Commercial; Capacitance: SKIP; Library Path1: parts/Diode_Micro_Commercial_DL4148-TP_eec.SchLib; Value: SKIP; Part Number: DL4148-TP; Datasheet Path: datasheets/Diode_Micro_Commercial_DL4148-TP_eec.pdf; ComponentLink1Description: Upverter; ComponentLink1URL: https://upverter.com/upn/revision/6c2c53871e71e105/; ComponentLink2Description: Datasheet; ComponentLink2URL: http://www.mccsemi.com/up_pdf/DL4148(MiniMelf).pdf; Datasheet Path1: datasheets/Diode_Micro_Commercial_DL4148-TP_eec.pdf; Digikey Description: DIODE GEN 75V 150MA MINI MELF; Digikey Part Number: DL4148-TPMSCT-ND; Inductance: SKIP; Ipc Land Pattern Name: DIOMELF350145; Lead Free: yes; Library Ref1: DL4148-TP; Mouser Part Number: 833-DL4148-TP; Package: MiniMELF; Price: 0.0847543684707; Resistance: SKIP; RoHS: TRUE; Supplier 1: Digi-Key; Supplier 2: Mouser; Supplier Part Number 1: DL4148-TPMSCT-ND; Supplier Part Number 2: 833-DL4148-TP; Temperature: -65℃ to +175℃; Temperature Range High: +175℃; Temperature Range Low: -65℃; Voltage: 75V; helpURL: https://upverter.com/upn/revision/6c2c53871e71e105/
footprint Micro_Commercial_DL4148-TP_0
pins: 1 C, 2 A

## DM3AT-SF-PEJM5
designator J?
Manufacturer_Name: Hirose; Datasheet Link: https://datasheet.lcsc.com/szlcsc/Hirose-HRS-DM3AT-SF-PEJM5_C114218.pdf; Height: 1.83mm; Manufacturer_Part_Number: DM3AT-SF-PEJM5; Mouser Part Number: 798-DM3AT-SF-PEJM5; Mouser Price/Stock: https://www.mouser.co.uk/ProductDetail/Hirose-Connector/DM3AT-SF-PEJM5?qs=LZSZKJVF%252B2WTDKp%252BR7IYAQ%3D%3D
footprint DM3ATSFPEJM5
pins: 1 DAT2, 2 CD/DAT3, 3 CMD, 4 VDD, 5 CLK, 6 VSS, 7 DAT0, 8 DAT1, MP1, MP2, MP3, MP4, MP5, MP6

## DMG1012T-7
designator Q?, comment Manufacturer Part Number: DMG1012T-7  (hidden comment: MOSFET N-CH 20V 630MA SOT-523)
N-Channel 20 V 630mA (Ta) 280mW (Ta) Surface Mount SOT-523; Order Code: DIGI: DMG1012T-7DITR-ND
footprint Diodes_Inc_SOT523_IPC_A
footprint Diodes_Inc_SOT523_IPC_B
footprint Diodes_Inc_SOT523_IPC_C
footprint Diodes_Inc_SOT523_MFG
pins: 1 G, 2 S, 3 D

## DRV8874PWPR
designator U?
Bipolar Motor Driver NMOS PWM 16-HTSSOP; Manufacturer: Texas Instruments; Manufacturer Part Number: DRV8874PWPR; Supplier: Digi; 296-DRV8874PWPRCT-ND
footprint SOP65P640X120-17N
pins: 1 EN/IN1 (in), 2 PH/IN2 (in), 3 NSLEEP (in), 4 NFAULT (io), 5 VREF (in), 6 IPROPI (out), 7 IMODE (in), 8 OUT1 (out), 9 PGND (power), 10 OUT2 (out), 11 VM (power), 12 VCP (power), 13 CPH (power), 14 CPL (power), 15 GND (power), 16 PMODE (in)

## DS1307ZN+
designator IC?
Crystal 0.032768MHz ±20ppm (Tol) 12.5pF Flexural 50000Ohm 2-Pin Mini-CSMD T/R; Manufacturer: Maxim; Supplier 1: Digikey; Manufacturer Part Number: DS1307ZN+; RoHS: Yes; Category: Real Time Clocks; Stock 1: 3879; Pricing 1: 1=5.62, 10=5.048, 25=4.7724, 100=4.136, 300=3.92387, 500=3.52086, 1000=2.9694, 2500=2.82093 (USD); ComponentLink1URL: https://datasheet.ciiva.com/1139/46359-1139143.pdf?src-supplier=Element14; ComponentLink1Description: https://datasheet.ciiva.com/1139/46359-1139143.pdf?src-supplier=Element14; ComponentLink2URL: https://datasheet.ciiva.com/3304/ds1307-3304459.pdf?src-supplier=Avnet; ComponentLink2Description: https://datasheet.ciiva.com/3304/ds1307-3304459.pdf?src-supplier=Avnet; ComponentLink3URL: https://datasheet.ciiva.com/1240/ds1307-1240470.pdf?src-supplier=Digikey; ComponentLink3Description: https://datasheet.ciiva.com/1240/ds1307-1240470.pdf?src-supplier=Digikey; ComponentLink4URL: https://datasheet.ciiva.com/43489/170005-da-01-en-ic-ds1307zn-so8-43489355.pdf?src-supplier=Conrad; ComponentLink4Description: https://datasheet.ciiva.com/43489/170005-da-01-en-ic-ds1307zn-so8-43489355.pdf?src-supplier=Conrad; Supplier Part Number 1: DS1307ZN+-ND; Supplier 2: Digikey; Stock 2: 143770; Pricing 2: 3000=0.29689 (USD); ComponentLink5URL: http://www.mouser.com/ds/2/122/ECX_34R-845158.pdf?src-supplier=Mouser; ComponentLink5Description: http://www.mouser.com/ds/2/122/ECX_34R-845158.pdf?src-supplier=Mouser; ComponentLink6URL: http://www.ecsxtal.com/store/pdf/partnumber4.pdf?src-supplier=Digikey; ComponentLink6Description: http://www.ecsxtal.com/store/pdf/partnumber4.pdf?src-supplier=Digikey; ComponentLink7URL: http://www.ecsxtal.com/store/pdf/ECX_34R.pdf?src-supplier=Digikey; ComponentLink7Description: http://www.ecsxtal.com/store/pdf/ECX_34R.pdf?src-supplier=Digikey; ComponentLink8URL: https://datasheet.octopart.com/ECS-.327-12.5-34R-TR-ECS-International-datasheet-145025602.pdf?src-supplier=Future+Electronics; ComponentLink8Description: https://datasheet.octopart.com/ECS-.327-12.5-34R-TR-ECS-International-datasheet-145025602.pdf?src-supplier=Future+Electronics; ComponentLink9URL: https://datasheet.octopart.com/ECS-.327-12.5-34R-TR-ECS-International-datasheet-138896068.pdf?src-supplier=Master+Electronics; ComponentLink9Description: https://datasheet.octopart.com/ECS-.327-12.5-34R-TR-ECS-International-datasheet-138896068.pdf?src-supplier=Master+Electronics; Supplier Part Number 2: XC2124TR-ND

## DS1307ZTR
designator IC?, comment IC RTC CLK/CALENDAR I2C 8SOIC
Real Time Clock 64x8 Serial I2C RTC; Manufacturer: Maxim; Manufacturer Part Number: DS1307ZTR; Supplier 1: Digikey; RoHS: Yes; Stock 1: 11500; Pricing 1: 2500=2.13766 (USD); ComponentLink1URL: https://datasheet.ciiva.com/22828/0900766b810e2680-22828066.pdf?src-supplier=Rs; ComponentLink1Description: https://datasheet.ciiva.com/22828/0900766b810e2680-22828066.pdf?src-supplier=Rs; ComponentLink2URL: https://datasheet.ciiva.com/3304/ds1307-3304458.pdf?src-supplier=Avnet; ComponentLink2Description: https://datasheet.ciiva.com/3304/ds1307-3304458.pdf?src-supplier=Avnet; ComponentLink3URL: https://datasheet.ciiva.com/17307/ds1307-17307070.pdf?; ComponentLink3Description: https://datasheet.ciiva.com/17307/ds1307-17307070.pdf?; Supplier Part Number 1: DS1307Z+T&RTR-ND
footprint SOIC127P600X175-8N
pins: 1 X1, 2 X2, 3 VBAT, 4 GND, 5 SDA, 6 SCL, 7 SQW/OUT, 8 VCC

## DS1678S+
designator U?
Real-Time Event Recorder, 32 Byte Battery-Backed NV RAM, 5.0V, 8-Pin SO, -40 to 85 degC, Pb-Free; ComponentLink1Description: Manufacturer URL; ComponentLink2Description: Datasheet; ComponentLink3Description: Package Specification; ComponentLink3URL: http://pdfserv.maxim-ic.com/package_dwgs/21-0262.PDF; DatasheetVersion: Apr-2005; ComponentLink1URL: http://www.maxim-ic.com; PackageVersion: revB, 2010; PackageDescription: 8-Pin Small-Outline IC, 0.208in, 1.27 mm Pitch, SOIC, Pb-Free; ComponentLink2URL: http://datasheets.maxim-ic.com/en/ds/DS1678.pdf; PackageReference: W8+4; Manufacturer Part Number: DS1678S+
footprint W8+4_N (SOP, 8-Leads, Body 5.3x5.3mm, Pitch 1.27mm, IPC Medium Density)
pins: 1 X1, 2 X2, 3 VBAT (power), 4 GND (power), 5 SDA (io), 6 SCL (in), 7 ~{INT}, 8 VCC (power)

## DS3231/SO
designator U?, comment DS3231
Real Time Clock 5+/-ppm RTC; Manufacturer: Maxim Integrated; Manufacturer Part Number: DS3231M+; Supplier Part Number: DS3231M+-ND; Value: DS3231
footprint soic-16 7.5MM (Footprint not found)
pins: 1 32KHZ (out), 2 VCC (power), 3 SQW/INT (out), 4 /RST, 5 NC, 6 NC1, 7 NC2, 8 NC3, 9 NC4, 10 NC5, 11 NC6, 12 NC7, 13 GND (power), 14 VBAT (power), 15 SDA, 16 SCL

## DS3231/SO_1
designator U?, comment DS3231
Real Time Clock 5+/-ppm RTC; Manufacturer: Maxim Integrated; Manufacturer Part Number: DS3231M+; Supplier Part Number: DS3231M+-ND; Value: DS3231
footprint soic-16 7.5MM (Footprint not found)
pins: 1 32KHZ (out), 2 VCC (power), 3 SQW/INT (out), 4 /RST, 5 NC, 6 NC1, 7 NC2, 8 NC3, 9 NC4, 10 NC5, 11 NC6, 12 NC7, 13 GND (power), 14 VBAT (power), 15 SDA, 16 SCL

## DS3232MZ+TRL
designator U?
Real Time Clock (RTC) IC Clock/Calendar 236B I²C, 2-Wire Serial 8-SOIC (0.154, 3.90mm Width); Manufacturer: Maxim; Manufacturer Part Number: DS3232MZ+TRL; Supplier 1: Digikey; RoHS: Yes; Category: Real Time Clocks; Stock 1: 40000; Pricing 1: 2500=5.252 (USD); ComponentLink1URL: https://datasheet.ciiva.com/12291/ds3232m-95532-12291172.pdf?src-supplier=Mouser; ComponentLink1Description: https://datasheet.ciiva.com/12291/ds3232m-95532-12291172.pdf?src-supplier=Mouser; ComponentLink2URL: https://datasheet.ciiva.com/14085/ds3232m-14085670.pdf?src-supplier=Digikey; ComponentLink2Description: https://datasheet.ciiva.com/14085/ds3232m-14085670.pdf?src-supplier=Digikey; ComponentLink3URL: https://datasheet.ciiva.com/14196/ds3232m-14196620.pdf?src-supplier=Avnet; ComponentLink3Description: https://datasheet.ciiva.com/14196/ds3232m-14196620.pdf?src-supplier=Avnet; Supplier Part Number 1: DS3232MZ+TRLTR-ND
footprint SOIC127P600X175-8N - duplicate1
pins: 1 32KHZ (io), 2 VCC (power), 3 ~{INT/SQW} (in), 4 ~{RST} (io), 5 GND, 6 VBAT (power), 7 SDA (io), 8 SCL (in)

## DS3232MZ+TRL_1
designator U?, comment DS3232MZ+TRL
Real Time Clock (RTC) IC Clock/Calendar 236B I²C, 2-Wire Serial 8-SOIC (0.154, 3.90mm Width); Manufacturer: Maxim; Supplier 1: Digikey; Manufacturer Part Number: DS3232MZ+TRL; RoHS: Yes; Category: Real Time Clocks; Stock 1: 40000; Pricing 1: 2500=5.252 (USD); ComponentLink1URL: https://datasheet.ciiva.com/12291/ds3232m-95532-12291172.pdf?src-supplier=Mouser; ComponentLink1Description: https://datasheet.ciiva.com/12291/ds3232m-95532-12291172.pdf?src-supplier=Mouser; ComponentLink2URL: https://datasheet.ciiva.com/14085/ds3232m-14085670.pdf?src-supplier=Digikey; ComponentLink2Description: https://datasheet.ciiva.com/14085/ds3232m-14085670.pdf?src-supplier=Digikey; ComponentLink3URL: https://datasheet.ciiva.com/14196/ds3232m-14196620.pdf?src-supplier=Avnet; ComponentLink3Description: https://datasheet.ciiva.com/14196/ds3232m-14196620.pdf?src-supplier=Avnet; Supplier Part Number 1: DS3232MZ+TRLTR-ND
footprint SOIC127P600X175-8N - duplicate1
pins: 1 32KHZ (io), 2 VCC (power), 3 ~{INT/SQW} (in), 4 ~{RST} (io), 5 GND, 6 VBAT (power), 7 SDA (io), 8 SCL (in)

## DS3232MZ+TRL_2
designator U?, comment DS3232MZ+TRL
Real Time Clock (RTC) IC Clock/Calendar 236B I²C, 2-Wire Serial 8-SOIC (0.154, 3.90mm Width); Manufacturer: Maxim; Supplier 1: Digikey; Manufacturer Part Number: DS3232MZ+TRL; RoHS: Yes; Category: Real Time Clocks; Stock 1: 40000; Pricing 1: 2500=5.252 (USD); ComponentLink1URL: https://datasheet.ciiva.com/12291/ds3232m-95532-12291172.pdf?src-supplier=Mouser; ComponentLink1Description: https://datasheet.ciiva.com/12291/ds3232m-95532-12291172.pdf?src-supplier=Mouser; ComponentLink2URL: https://datasheet.ciiva.com/14085/ds3232m-14085670.pdf?src-supplier=Digikey; ComponentLink2Description: https://datasheet.ciiva.com/14085/ds3232m-14085670.pdf?src-supplier=Digikey; ComponentLink3URL: https://datasheet.ciiva.com/14196/ds3232m-14196620.pdf?src-supplier=Avnet; ComponentLink3Description: https://datasheet.ciiva.com/14196/ds3232m-14196620.pdf?src-supplier=Avnet; Supplier Part Number 1: DS3232MZ+TRLTR-ND
footprint SOIC127P600X175-8N - duplicate1
pins: 1 32KHZ (io), 2 VCC (power), 3 ~{INT/SQW} (in), 4 ~{RST} (io), 5 GND, 6 VBAT (power), 7 SDA (io), 8 SCL (in)

## DS3232MZ+TRL_3
designator U?, comment DS3232MZ+TRL
Real Time Clock (RTC) IC Clock/Calendar 236B I²C, 2-Wire Serial 8-SOIC (0.154, 3.90mm Width); Manufacturer: Maxim; Supplier 1: Digikey; Manufacturer Part Number: DS3232MZ+TRL; RoHS: Yes; Category: Real Time Clocks; Stock 1: 40000; Pricing 1: 2500=5.252 (USD); ComponentLink1URL: https://datasheet.ciiva.com/12291/ds3232m-95532-12291172.pdf?src-supplier=Mouser; ComponentLink1Description: https://datasheet.ciiva.com/12291/ds3232m-95532-12291172.pdf?src-supplier=Mouser; ComponentLink2URL: https://datasheet.ciiva.com/14085/ds3232m-14085670.pdf?src-supplier=Digikey; ComponentLink2Description: https://datasheet.ciiva.com/14085/ds3232m-14085670.pdf?src-supplier=Digikey; ComponentLink3URL: https://datasheet.ciiva.com/14196/ds3232m-14196620.pdf?src-supplier=Avnet; ComponentLink3Description: https://datasheet.ciiva.com/14196/ds3232m-14196620.pdf?src-supplier=Avnet; Supplier Part Number 1: DS3232MZ+TRLTR-ND
footprint SOIC127P600X175-8N - duplicate1
pins: 1 32KHZ (io), 2 VCC (power), 3 ~{INT/SQW} (in), 4 ~{RST} (io), 5 GND, 6 VBAT (power), 7 SDA (io), 8 SCL (in)

## DS3232MZ+TRL_4
designator U?, comment DS3232MZ+TRL
Real Time Clock (RTC) IC Clock/Calendar 236B I²C, 2-Wire Serial 8-SOIC (0.154, 3.90mm Width); Manufacturer: Maxim; Supplier 1: Digikey; Manufacturer Part Number: DS3232MZ+TRL; RoHS: Yes; Category: Real Time Clocks; Stock 1: 40000; Pricing 1: 2500=5.252 (USD); ComponentLink1URL: https://datasheet.ciiva.com/12291/ds3232m-95532-12291172.pdf?src-supplier=Mouser; ComponentLink1Description: https://datasheet.ciiva.com/12291/ds3232m-95532-12291172.pdf?src-supplier=Mouser; ComponentLink2URL: https://datasheet.ciiva.com/14085/ds3232m-14085670.pdf?src-supplier=Digikey; ComponentLink2Description: https://datasheet.ciiva.com/14085/ds3232m-14085670.pdf?src-supplier=Digikey; ComponentLink3URL: https://datasheet.ciiva.com/14196/ds3232m-14196620.pdf?src-supplier=Avnet; ComponentLink3Description: https://datasheet.ciiva.com/14196/ds3232m-14196620.pdf?src-supplier=Avnet; Supplier Part Number 1: DS3232MZ+TRLTR-ND
footprint SOIC127P600X175-8N - duplicate1
pins: 1 32KHZ (io), 2 VCC (power), 3 ~{INT/SQW} (in), 4 ~{RST} (io), 5 GND, 6 VBAT (power), 7 SDA (io), 8 SCL (in)

## E5J88-00AJG2-L
designator J?
Connector; Manufacturer_Name: Pulse Electronics; Manufacturer_Part_Number: E5J88-00AJG2-L; Datasheet Link: https://www.mouser.com/datasheet/2/336/E5J88-00AJG2-L-1526844.pdf; Height: 12.85mm; Mouser Part Number: 673-E5J88-00AJG2-L; Mouser Price/Stock: https://www.mouser.co.uk/ProductDetail/Pulse-Electronics/E5J88-00AJG2-L?qs=wkzZgEj%252B4jVbUteJJL5e4g%3D%3D; Arrow Part Number: E5J88-00AJG2-L; Arrow Price/Stock: null?region=nac
footprint E5J8800AJG2L
pins: 1, 2, 3, 4, 5, 6, 7, 8, 9, 10, 11, 12, 13, 14, 15, 16

## EC11_ENCODER
designator ENC?, comment Manufacturer Part Number: EC11L1525E05  (hidden comment: Plugin Rotary Encoders ROHS)
LCSC Part Number: C2687298
footprint Alps_Encoder
pins: 6, 7, A, B, C, D, E

## ECE40US24
designator PS?
Power Supply; Manufacturer_Name: XP POWER; Manufacturer_Part_Number: ECE40US24; Datasheet Link: https://www.xppower.com/portals/0/pdfs/SF_ECE20-40.pdf; Height: 28.4mm; Mouser Part Number: 209-ECE40US24; Mouser Price/Stock: https://www.mouser.co.uk/ProductDetail/XP-Power/ECE40US24?qs=w%2Fv1CP2dgqpFmZ1XFz7rlQ%3D%3D
footprint ECE40US24
pins: 1 ACL, 2 +VO, 3 -VO, 4 ACN

## ECLAMP2410PQTCT
designator IC?
ESD Suppressors / TVS Diodes 5V 6-Line AEC-Q100 SLP4016P16; Manufacturer Name: SEMTECH; Geometry.Height: 0.65mm; Datasheet Link: https://componentsearchengine.com/Datasheets/1/ECLAMP2410PQTCT.pdf; Manufacturer Part Number: ECLAMP2410PQTCT; Mouser Part Number: 947-ECLAMP2410PQTCT; Mouser Price/Stock: https://www.mouser.co.uk/ProductDetail/Semtech/ECLAMP2410PQTCT?qs=rBWM4%252BvDhIcUJGN2YMPvUA%3D%3D; Arrow Part Number: ECLAMP2410PQTCT; Arrow Price/Stock: https://www.arrow.com/en/products/eclamp2410pqtct/semtech?region=nac
footprint SON50P160X400X65-17N
pins: 1 DAT1_IN, 2 DAT0_IN, 3 CLK_IN, 4 RUP1, 5 VDD, 6 CMD_IN, 7 DAT3_IN, 8 DAT2_IN, 9 DAT2_OUT, 10 DAT3_OUT, 11 CMD_OUT, 12 RUP2, 13 RUP3, 14 CLK_OUT, 15 DAT0_OUT, 16 DAT1_OUT, 17 EP

## ECLAMP2410PQTCT_1
designator IC?
Integrated Circuit; Manufacturer_Name: SEMTECH; Manufacturer_Part_Number: ECLAMP2410PQTCT; Datasheet Link: https://componentsearchengine.com/Datasheets/1/ECLAMP2410PQTCT.pdf; Height: 0.65mm; Mouser Part Number: 947-ECLAMP2410PQTCT; Mouser Price/Stock: https://www.mouser.co.uk/ProductDetail/Semtech/ECLAMP2410PQTCT?qs=rBWM4%252BvDhIcUJGN2YMPvUA%3D%3D; Arrow Part Number: ECLAMP2410PQTCT; Arrow Price/Stock: https://www.arrow.com/en/products/eclamp2410pqtct/semtech?region=nac
footprint SON50P160X400X65-17N
pins: 1 DAT1_IN, 2 DAT0_IN, 3 CLK_IN, 4 RUP1, 5 VDD, 6 CMD_IN, 7 DAT3_IN, 8 DAT2_IN, 9 DAT2_OUT, 10 DAT3_OUT, 11 CMD_OUT, 12 RUP2, 13 RUP3, 14 CLK_OUT, 15 DAT0_OUT, 16 DAT1_OUT, 17 EP

## ECLAMP2410PQTCT_2
designator U?, comment Manufacturer Part Number: ECLAMP2410PQTCT  (hidden comment: FILTER RC(PI) 45 OHM/15PF SMD)
RC (Pi) EMI Filter 2nd Order Low Pass 6 Channel R = 45Ohms, C = 15pF 16-UFDFN Exposed Pad; Order Code: DIGI: ECLAMP2410PQTCTTR-ND
footprint SON50P160X400X65-17N
pins: 1 DAT1_IN, 2 DAT0_IN, 3 CLK_IN, 4 RUP1, 5 VDD, 6 CMD_IN, 7 DAT3_IN, 8 DAT2_IN, 9 DAT2_OUT, 10 DAT3_OUT, 11 CMD_OUT, 12 RUP2, 13 RUP3, 14 CLK_OUT, 15 DAT0_OUT, 16 DAT1_OUT, 17 EP

## ECMF02-2AMX6
designator FL?, comment Manufacturer Part Number: ECMF02-2AMX6  (hidden comment: CMC 200MA 2LN SMD ESD)
2 Line Common Mode Choke Surface Mount 200mA DCR 2.5Ohm; Order Code: DIGI: 497-10773-2-ND
footprint STMicroelectronics_QFN-6L_IPC_A
footprint STMicroelectronics_QFN-6L_IPC_B
footprint STMicroelectronics_QFN-6L_IPC_C
footprint STMicroelectronics_QFN-6L_MFG
pins: 1 D+, 2 D-, 3 GND (power), 4 NC, 5 D-, 6 D+

## ECS-80-20-4X
designator Y?, comment value 8MHz  (hidden comment: CRYSTAL 8.0000MHZ 20PF TH)
8 MHz ±30ppm Crystal 20pF 80 Ohms HC-49/US; Manufacturer Part Number: ECS-80-20-4X; LCSC Manufacturer Part Number: X49SD8MSD2SC; Order Code: Digi: X1094-ND; MF: ECS Inc.; Package: HC49/US ECS International; Digi-Key_Purchase_URL: https://www.digikey.com.tr/product-detail/en/ecs-inc/ECS-80-20-4X/X1094-ND/827585?utm_source=snapeda&utm_medium=aggregator&utm_campaign=symbol; SnapEDA_Link: https://www.snapeda.com/parts/ECS-80-20-4X/ECS%20Inc./view-part/558958/?ref=snap; LCSC Part Number: C21263
footprint XTAL_ECS-80-20-4X
pins: 1, 2